# Altium schematic symbol library Sensor - Thermocouple.SchLib: 21 symbols
Pins are listed as number, name and electrical type; pins without a type are passive.

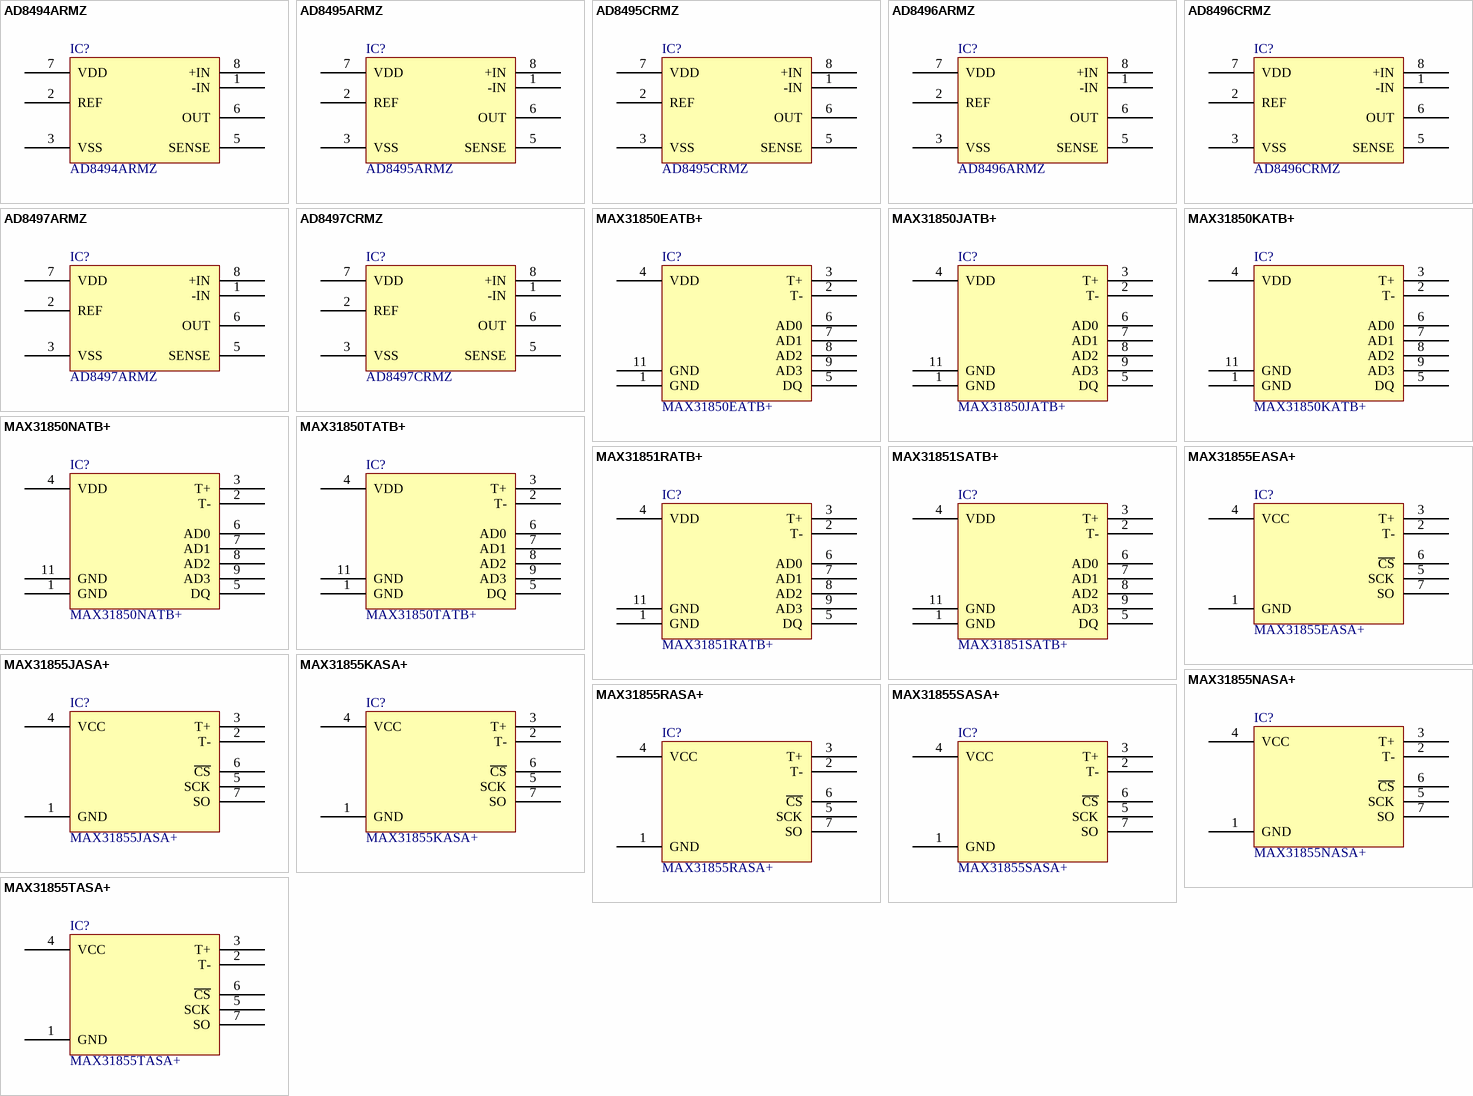
[diagram p0: symbols AD8494ARMZ to MAX31855TASA+]

## AD8494ARMZ
designator IC?
THERMOCOUPLE AMPLIFIER IC; Manufacturer: Analog Devices Inc.; Input Type: Differential; Output Type: Analog; Current Supply: 250uA; Part Number: AD8494ARMZ; PartId: 9326; Supplier 1: Digi-Key; Supplier Part Number 1: AD8494ARMZ-ND; ComponentLink1Description: Datasheet; ComponentLink1URL: http://www.analog.com/media/en/technical-documentation/data-sheets/AD8494_8495_8496_8497.pdf; ComponentLink2Description: Digi-Key Listing; ComponentLink2URL: https://www.digikey.com/product-detail/en/AD8494ARMZ/AD8494ARMZ-ND/2409458; Price: 4.81; Type: Thermocouple Amplifier; Device Package: 8-TSSOP, 8-MSOP (0.118", 3.00mm Width); Series: -; Interface: -; Operating Temperature: 0C ~ 50C
footprint ANALOG MSOP-8 RM-8
pins: 1 -IN, 2 REF, 3 VSS, 5 SENSE, 6 OUT, 7 VDD, 8 +IN

## AD8495ARMZ
designator IC?
IC THERMOCOUPLE A W/COMP 8MSOP; Manufacturer: Analog Devices Inc.; Input Type: Differential; Output Type: Analog; Current Supply: 250uA; Part Number: AD8495ARMZ; PartId: 9327; Supplier 1: Digi-Key; Supplier Part Number 1: AD8495ARMZ-ND; ComponentLink1Description: Datasheet; ComponentLink1URL: http://www.analog.com/media/en/technical-documentation/data-sheets/AD8494_8495_8496_8497.pdf; ComponentLink2Description: Digi-Key Listing; ComponentLink2URL: https://www.digikey.com/product-detail/en/AD8495ARMZ/AD8495ARMZ-ND/2404366; Price: 4.81; Type: Thermocouple Amplifier; Device Package: 8-TSSOP, 8-MSOP (0.118", 3.00mm Width); Series: -; Interface: -; Operating Temperature: 0C ~ 50C
footprint ANALOG MSOP-8 RM-8
pins: 1 -IN, 2 REF, 3 VSS, 5 SENSE, 6 OUT, 7 VDD, 8 +IN

## AD8495CRMZ
designator IC?
IC THERMOCOUPLE A W/COMP 8MSOP; Manufacturer: Analog Devices Inc.; Input Type: Differential; Output Type: Analog; Current Supply: 250uA; Part Number: AD8495CRMZ; PartId: 9328; Supplier 1: Digi-Key; Supplier Part Number 1: AD8495CRMZ-ND; ComponentLink1Description: Datasheet; ComponentLink1URL: http://www.analog.com/media/en/technical-documentation/data-sheets/AD8494_8495_8496_8497.pdf; ComponentLink2Description: Digi-Key Listing; ComponentLink2URL: https://www.digikey.com/product-detail/en/AD8495CRMZ/AD8495CRMZ-ND/2404133; Price: 7.64; Type: Thermocouple Amplifier; Device Package: 8-TSSOP, 8-MSOP (0.118", 3.00mm Width); Series: -; Interface: -; Operating Temperature: 0C ~ 50C
footprint ANALOG MSOP-8 RM-8
pins: 1 -IN, 2 REF, 3 VSS, 5 SENSE, 6 OUT, 7 VDD, 8 +IN

## AD8496ARMZ
designator IC?
THERMOCOUPLE AMPLIFIER I; Manufacturer: Analog Devices Inc.; Input Type: Differential; Output Type: Analog; Current Supply: 180uA; Part Number: AD8496ARMZ; PartId: 9329; Supplier 1: Digi-Key; Supplier Part Number 1: AD8496ARMZ-ND; ComponentLink1Description: Datasheet; ComponentLink1URL: http://www.analog.com/media/en/technical-documentation/data-sheets/AD8494_8495_8496_8497.pdf; ComponentLink2Description: Digi-Key Listing; ComponentLink2URL: https://www.digikey.com/product-detail/en/AD8496ARMZ/AD8496ARMZ-ND/2606591; Price: 4.81; Type: Thermocouple Amplifier; Device Package: 8-TSSOP, 8-MSOP (0.118", 3.00mm Width); Series: -; Interface: -; Operating Temperature: -40C ~ 125C
footprint ANALOG MSOP-8 RM-8
pins: 1 -IN, 2 REF, 3 VSS, 5 SENSE, 6 OUT, 7 VDD, 8 +IN

## AD8496CRMZ
designator IC?
THERMOCOUPLE AMPLIFIER I; Manufacturer: Analog Devices Inc.; Input Type: Differential; Output Type: Analog; Current Supply: 180uA; Part Number: AD8496CRMZ; PartId: 9330; Supplier 1: Digi-Key; Supplier Part Number 1: AD8496CRMZ-ND; ComponentLink1Description: Datasheet; ComponentLink1URL: http://www.analog.com/media/en/technical-documentation/data-sheets/AD8494_8495_8496_8497.pdf; ComponentLink2Description: Digi-Key Listing; ComponentLink2URL: https://www.digikey.com/product-detail/en/AD8496CRMZ/AD8496CRMZ-ND/2606668; Price: 7.64; Type: Thermocouple Amplifier; Device Package: 8-TSSOP, 8-MSOP (0.118", 3.00mm Width); Series: -; Interface: -; Operating Temperature: -40C ~ 125C
footprint ANALOG MSOP-8 RM-8
pins: 1 -IN, 2 REF, 3 VSS, 5 SENSE, 6 OUT, 7 VDD, 8 +IN

## AD8497ARMZ
designator IC?
IC THERMOCOUPLE A W/COMP 8MSOP; Manufacturer: Analog Devices Inc.; Input Type: Differential; Output Type: Analog; Current Supply: 250uA; Part Number: AD8497ARMZ; PartId: 9331; Supplier 1: Digi-Key; Supplier Part Number 1: AD8497ARMZ-ND; ComponentLink1Description: Datasheet; ComponentLink1URL: http://www.analog.com/media/en/technical-documentation/data-sheets/AD8494_8495_8496_8497.pdf; ComponentLink2Description: Digi-Key Listing; ComponentLink2URL: https://www.digikey.com/product-detail/en/AD8497ARMZ/AD8497ARMZ-ND/2404367; Price: 4.81; Type: Thermocouple Amplifier; Device Package: 8-TSSOP, 8-MSOP (0.118", 3.00mm Width); Series: -; Interface: -; Operating Temperature: 25C ~ 100C
footprint ANALOG MSOP-8 RM-8
pins: 1 -IN, 2 REF, 3 VSS, 5 SENSE, 6 OUT, 7 VDD, 8 +IN

## AD8497CRMZ
designator IC?
IC THERMOCOUPLE A W/COMP 8MSOP; Manufacturer: Analog Devices Inc.; Input Type: Differential; Output Type: Analog; Current Supply: 250uA; Part Number: AD8497CRMZ; PartId: 9332; Supplier 1: Digi-Key; Supplier Part Number 1: AD8497CRMZ-ND; ComponentLink1Description: Datasheet; ComponentLink1URL: http://www.analog.com/media/en/technical-documentation/data-sheets/AD8494_8495_8496_8497.pdf; ComponentLink2Description: Digi-Key Listing; ComponentLink2URL: https://www.digikey.com/product-detail/en/AD8497CRMZ/AD8497CRMZ-ND/2404136; Price: 7.64; Type: Thermocouple Amplifier; Device Package: 8-TSSOP, 8-MSOP (0.118", 3.00mm Width); Series: -; Interface: -; Operating Temperature: 25C ~ 100C
footprint ANALOG MSOP-8 RM-8
pins: 1 -IN, 2 REF, 3 VSS, 5 SENSE, 6 OUT, 7 VDD, 8 +IN

## MAX31850EATB+
designator IC?
IC CONV THRMCPLE-DIG E TYPE TDFN; Manufacturer: Maxim Integrated; Input Type: Thermocouple (Multiple); Output Type: Digital; Interface: 1-Wire; Current Supply: 900uA; Part Number: MAX31850EATB+; PartId: 9333; Supplier 1: Digi-Key; Supplier Part Number 1: MAX31850EATB+-ND; ComponentLink1Description: Datasheet; ComponentLink1URL: http://datasheets.maximintegrated.com/en/ds/MAX31850-MAX31851.pdf; ComponentLink2Description: Digi-Key Listing; ComponentLink2URL: https://www.digikey.com/product-detail/en/MAX31850EATB%2B/MAX31850EATB%2B-ND/3976052; Price: 3.59; Type: Thermocouple to Digital Converter; Device Package: 10-WFDFN Exposed Pad; Series: -; Operating Temperature: -40C ~ 125C
footprint MAXIM TDFN-10 T1034N-1
pins: 1 GND, 2 T-, 3 T+, 4 VDD, 5 DQ, 6 AD0, 7 AD1, 8 AD2, 9 AD3, 11 GND

## MAX31850JATB+
designator IC?
IC CONV THRMCPLE-DIG J TYPE TDFN; Manufacturer: Maxim Integrated; Input Type: Thermocouple (Multiple); Output Type: Digital; Interface: 1-Wire; Current Supply: 900uA; Part Number: MAX31850JATB+; PartId: 9334; Supplier 1: Digi-Key; Supplier Part Number 1: MAX31850JATB+-ND; ComponentLink1Description: Datasheet; ComponentLink1URL: http://datasheets.maximintegrated.com/en/ds/MAX31850-MAX31851.pdf; ComponentLink2Description: Digi-Key Listing; ComponentLink2URL: https://www.digikey.com/product-detail/en/MAX31850JATB%2B/MAX31850JATB%2B-ND/3976054; Price: 3.59; Type: Thermocouple to Digital Converter; Device Package: 10-WFDFN Exposed Pad; Series: -; Operating Temperature: -40C ~ 125C
footprint MAXIM TDFN-10 T1034N-1
pins: 1 GND, 2 T-, 3 T+, 4 VDD, 5 DQ, 6 AD0, 7 AD1, 8 AD2, 9 AD3, 11 GND

## MAX31850KATB+
designator IC?
IC CONV THRMCPLE-DIG K TYPE TDFN; Manufacturer: Maxim Integrated; Input Type: Thermocouple (Multiple); Output Type: Digital; Interface: 1-Wire; Current Supply: 900uA; Part Number: MAX31850KATB+; PartId: 9335; Supplier 1: Digi-Key; Supplier Part Number 1: MAX31850KATB+-ND; ComponentLink1Description: Datasheet; ComponentLink1URL: http://datasheets.maximintegrated.com/en/ds/MAX31850-MAX31851.pdf; ComponentLink2Description: Digi-Key Listing; ComponentLink2URL: https://www.digikey.com/product-detail/en/MAX31850KATB%2B/MAX31850KATB%2B-ND/3976056; Price: 3.59; Type: Thermocouple to Digital Converter; Device Package: 10-WFDFN Exposed Pad; Series: -; Operating Temperature: -40C ~ 125C
footprint MAXIM TDFN-10 T1034N-1
pins: 1 GND, 2 T-, 3 T+, 4 VDD, 5 DQ, 6 AD0, 7 AD1, 8 AD2, 9 AD3, 11 GND

## MAX31850NATB+
designator IC?
IC CONV THRMCPLE-DIG N TYPE TDFN; Manufacturer: Maxim Integrated; Input Type: Thermocouple (Multiple); Output Type: Digital; Interface: 1-Wire; Current Supply: 900uA; Part Number: MAX31850NATB+; PartId: 9336; Supplier 1: Digi-Key; Supplier Part Number 1: MAX31850NATB+-ND; ComponentLink1Description: Datasheet; ComponentLink1URL: http://datasheets.maximintegrated.com/en/ds/MAX31850-MAX31851.pdf; ComponentLink2Description: Digi-Key Listing; ComponentLink2URL: https://www.digikey.com/product-detail/en/MAX31850NATB%2B/MAX31850NATB%2B-ND/3976058; Price: 3.59; Type: Thermocouple to Digital Converter; Device Package: 10-WFDFN Exposed Pad; Series: -; Operating Temperature: -40C ~ 125C
footprint MAXIM TDFN-10 T1034N-1
pins: 1 GND, 2 T-, 3 T+, 4 VDD, 5 DQ, 6 AD0, 7 AD1, 8 AD2, 9 AD3, 11 GND

## MAX31850TATB+
designator IC?
IC CONV THRMCPLE-DIG T TYPE TDFN; Manufacturer: Maxim Integrated; Input Type: Thermocouple (Multiple); Output Type: Digital; Interface: 1-Wire; Current Supply: 900uA; Part Number: MAX31850TATB+; PartId: 9337; Supplier 1: Digi-Key; Supplier Part Number 1: MAX31850TATB+-ND; ComponentLink1Description: Datasheet; ComponentLink1URL: http://datasheets.maximintegrated.com/en/ds/MAX31850-MAX31851.pdf; ComponentLink2Description: Digi-Key Listing; ComponentLink2URL: https://www.digikey.com/product-detail/en/MAX31850TATB%2B/MAX31850TATB%2B-ND/3976060; Price: 3.59; Type: Thermocouple to Digital Converter; Device Package: 10-WFDFN Exposed Pad; Series: -; Operating Temperature: -40C ~ 125C
footprint MAXIM TDFN-10 T1034N-1
pins: 1 GND, 2 T-, 3 T+, 4 VDD, 5 DQ, 6 AD0, 7 AD1, 8 AD2, 9 AD3, 11 GND

## MAX31851RATB+
designator IC?
1-WIRE THRMOCPLE TO DIG CONV; Manufacturer: Maxim Integrated; Input Type: Thermocouple (Multiple); Output Type: Digital; Current Supply: 900uA; Part Number: MAX31851RATB+; PartId: 9338; Supplier 1: Digi-Key; Supplier Part Number 1: MAX31851RATB+-ND; ComponentLink1Description: Datasheet; ComponentLink1URL: http://datasheets.maximintegrated.com/en/ds/MAX31850-MAX31851.pdf; ComponentLink2Description: Digi-Key Listing; ComponentLink2URL: https://www.digikey.com/product-detail/en/MAX31851RATB%2B/MAX31851RATB%2B-ND/4156340; Price: 3.59; Type: Thermocouple to Digital Converter; Device Package: 10-WFDFN Exposed Pad; Series: -; Interface: 1-Wire; Operating Temperature: -40C ~ 125C
footprint MAXIM TDFN-10 T1034N-1
pins: 1 GND, 2 T-, 3 T+, 4 VDD, 5 DQ, 6 AD0, 7 AD1, 8 AD2, 9 AD3, 11 GND

## MAX31851SATB+
designator IC?
1-WIRE THRMOCPLE TO DIG CONV; Manufacturer: Maxim Integrated; Input Type: Thermocouple (Multiple); Output Type: Digital; Current Supply: 900uA; Part Number: MAX31851SATB+; PartId: 9339; Supplier 1: Digi-Key; Supplier Part Number 1: MAX31851SATB+-ND; ComponentLink1Description: Datasheet; ComponentLink1URL: http://datasheets.maximintegrated.com/en/ds/MAX31850-MAX31851.pdf; ComponentLink2Description: Digi-Key Listing; ComponentLink2URL: https://www.digikey.com/product-detail/en/MAX31851SATB%2B/MAX31851SATB%2B-ND/4156436; Price: 3.59; Type: Thermocouple to Digital Converter; Device Package: 10-WFDFN Exposed Pad; Series: -; Interface: 1-Wire; Operating Temperature: -40C ~ 125C
footprint MAXIM TDFN-10 T1034N-1
pins: 1 GND, 2 T-, 3 T+, 4 VDD, 5 DQ, 6 AD0, 7 AD1, 8 AD2, 9 AD3, 11 GND

## MAX31855EASA+
designator IC?
IC CONV THERMOCOUPLE-DGTL 8SOIC; Manufacturer: Maxim Integrated; Input Type: Thermocouple (Multiple); Output Type: Digital; Interface: SPI; Current Supply: 900uA; Part Number: MAX31855EASA+; PartId: 9340; Supplier 1: Digi-Key; Supplier Part Number 1: MAX31855EASA+-ND; ComponentLink1Description: Datasheet; ComponentLink1URL: http://datasheets.maximintegrated.com/en/ds/MAX31855.pdf; ComponentLink2Description: Digi-Key Listing; ComponentLink2URL: https://www.digikey.com/product-detail/en/MAX31855EASA%2B/MAX31855EASA%2B-ND/2754398; Price: 4.57; Type: Thermocouple to Digital Converter; Device Package: 8-SOIC (0.154", 3.90mm Width); Series: -; Operating Temperature: -40C ~ 125C
footprint MAXIM SOIC-8 S8
pins: 1 GND, 2 T-, 3 T+, 4 VCC, 5 SCK, 6 ~{CS}, 7 SO

## MAX31855JASA+
designator IC?
IC CONV THERMOCOUPLE-DGTL 8SOIC; Manufacturer: Maxim Integrated; Input Type: Thermocouple (Multiple); Output Type: Digital; Interface: SPI; Current Supply: 900uA; Part Number: MAX31855JASA+; PartId: 9341; Supplier 1: Digi-Key; Supplier Part Number 1: MAX31855JASA+-ND; ComponentLink1Description: Datasheet; ComponentLink1URL: http://datasheets.maximintegrated.com/en/ds/MAX31855.pdf; ComponentLink2Description: Digi-Key Listing; ComponentLink2URL: https://www.digikey.com/product-detail/en/MAX31855JASA%2B/MAX31855JASA%2B-ND/2754399; Price: 4.5; Type: Thermocouple to Digital Converter; Device Package: 8-SOIC (0.154", 3.90mm Width); Series: -; Operating Temperature: -40C ~ 125C
footprint MAXIM SOIC-8 S8
pins: 1 GND, 2 T-, 3 T+, 4 VCC, 5 SCK, 6 ~{CS}, 7 SO

## MAX31855KASA+
designator IC?
IC CONV THERMOCOUPLE-DGTL SOIC; Manufacturer: Maxim Integrated; Input Type: Thermocouple (Multiple); Output Type: Digital; Interface: SPI; Current Supply: 900uA; Part Number: MAX31855KASA+; PartId: 9342; Supplier 1: Digi-Key; Supplier Part Number 1: MAX31855KASA+-ND; ComponentLink1Description: Datasheet; ComponentLink1URL: http://datasheets.maximintegrated.com/en/ds/MAX31855.pdf; ComponentLink2Description: Digi-Key Listing; ComponentLink2URL: https://www.digikey.com/product-detail/en/MAX31855KASA%2B/MAX31855KASA%2B-ND/2591564; Price: 4.5; Type: Thermocouple to Digital Converter; Device Package: 8-SOIC (0.154", 3.90mm Width); Series: -; Operating Temperature: -40C ~ 125C
footprint MAXIM SOIC-8 S8
pins: 1 GND, 2 T-, 3 T+, 4 VCC, 5 SCK, 6 ~{CS}, 7 SO

## MAX31855NASA+
designator IC?
IC CONV THERMOCOUPLE-DGTL SOIC; Manufacturer: Maxim Integrated; Input Type: Thermocouple (Multiple); Output Type: Digital; Interface: SPI; Current Supply: 900uA; Part Number: MAX31855NASA+; PartId: 9343; Supplier 1: Digi-Key; Supplier Part Number 1: MAX31855NASA+-ND; ComponentLink1Description: Datasheet; ComponentLink1URL: http://datasheets.maximintegrated.com/en/ds/MAX31855.pdf; ComponentLink2Description: Digi-Key Listing; ComponentLink2URL: https://www.digikey.com/product-detail/en/MAX31855NASA%2B/MAX31855NASA%2B-ND/2591566; Price: 4.5; Type: Thermocouple to Digital Converter; Device Package: 8-SOIC (0.154", 3.90mm Width); Series: -; Operating Temperature: -40C ~ 125C
footprint MAXIM SOIC-8 S8
pins: 1 GND, 2 T-, 3 T+, 4 VCC, 5 SCK, 6 ~{CS}, 7 SO

## MAX31855RASA+
designator IC?
IC CONV THERMOCOUPLE-DGTL 8SOIC; Manufacturer: Maxim Integrated; Input Type: Thermocouple (Multiple); Output Type: Digital; Interface: SPI; Current Supply: 900uA; Part Number: MAX31855RASA+; PartId: 9344; Supplier 1: Digi-Key; Supplier Part Number 1: MAX31855RASA+-ND; ComponentLink1Description: Datasheet; ComponentLink1URL: http://datasheets.maximintegrated.com/en/ds/MAX31855.pdf; ComponentLink2Description: Digi-Key Listing; ComponentLink2URL: https://www.digikey.com/product-detail/en/MAX31855RASA%2B/MAX31855RASA%2B-ND/2708759; Price: 4.5; Type: Thermocouple to Digital Converter; Device Package: 8-SOIC (0.154", 3.90mm Width); Series: -; Operating Temperature: -40C ~ 125C
footprint MAXIM SOIC-8 S8
pins: 1 GND, 2 T-, 3 T+, 4 VCC, 5 SCK, 6 ~{CS}, 7 SO

## MAX31855SASA+
designator IC?
IC CONV THERMOCOUPLE-DGTL 8SOIC; Manufacturer: Maxim Integrated; Input Type: Thermocouple (Multiple); Output Type: Digital; Interface: SPI; Current Supply: 900uA; Part Number: MAX31855SASA+; PartId: 9345; Supplier 1: Digi-Key; Supplier Part Number 1: MAX31855SASA+-ND; ComponentLink1Description: Datasheet; ComponentLink1URL: http://datasheets.maximintegrated.com/en/ds/MAX31855.pdf; ComponentLink2Description: Digi-Key Listing; ComponentLink2URL: https://www.digikey.com/product-detail/en/MAX31855SASA%2B/MAX31855SASA%2B-ND/2754400; Price: 4.5; Type: Thermocouple to Digital Converter; Device Package: 8-SOIC (0.154", 3.90mm Width); Series: -; Operating Temperature: -40C ~ 125C
footprint MAXIM SOIC-8 S8
pins: 1 GND, 2 T-, 3 T+, 4 VCC, 5 SCK, 6 ~{CS}, 7 SO

## MAX31855TASA+
designator IC?
IC CONV THERMOCOUPLE-DGTL 8SOIC; Manufacturer: Maxim Integrated; Input Type: Thermocouple (Multiple); Output Type: Digital; Interface: SPI; Current Supply: 900uA; Part Number: MAX31855TASA+; PartId: 9346; Supplier 1: Digi-Key; Supplier Part Number 1: MAX31855TASA+-ND; ComponentLink1Description: Datasheet; ComponentLink1URL: http://datasheets.maximintegrated.com/en/ds/MAX31855.pdf; ComponentLink2Description: Digi-Key Listing; ComponentLink2URL: https://www.digikey.com/product-detail/en/MAX31855TASA%2B/MAX31855TASA%2B-ND/2754401; Price: 4.57; Type: Thermocouple to Digital Converter; Device Package: 8-SOIC (0.154", 3.90mm Width); Series: -; Operating Temperature: -40C ~ 125C
footprint MAXIM SOIC-8 S8
pins: 1 GND, 2 T-, 3 T+, 4 VCC, 5 SCK, 6 ~{CS}, 7 SO